# Altium schematic symbol library CL21B104KCFNNNE.SchLib: 1 symbol
Pins are listed as number, name and electrical type; pins without a type are passive.

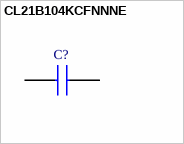
[diagram p0: symbol CL21B104KCFNNNE]

## CL21B104KCFNNNE
designator C?
SAMSUNG ELECTRO-MECHANICS - CL21B104KCFNNNE - CAP, 0.1UF, 100V, MLCC, 0805; Geometry.Height: 1.35mm; Mouser Part Number: 187-CL21B104KCFNNNE; Mouser Price/Stock: https://www.mouser.co.uk/ProductDetail/Samsung-Electro-Mechanics/CL21B104KCFNNNE?qs=lptGheUA4EwiEGVRX9oguw%3D%3D; Manufacturer_Name: Samsung Electro-Mechanics; Manufacturer_Part_Number: CL21B104KCFNNNE; Datasheet Link: https://datasheet.datasheetarchive.com/originals/distributors/DKDS-19/374389.pdf
footprint CAPC2012X135N
pins: 1, 2